# Altium footprint library PcbLib.PcbLib: 23 footprints (part 2 of 2)
Each footprint in its own frame and in the unit in brackets; x right, y up, seen from the top. Pads: shape width x height; smd on the part's side, far side on the other; paste and mask are expansions set on the pad; w line width, h text height; cw(c..) or ccw(c..) is an arc to the next point about the centre after c.
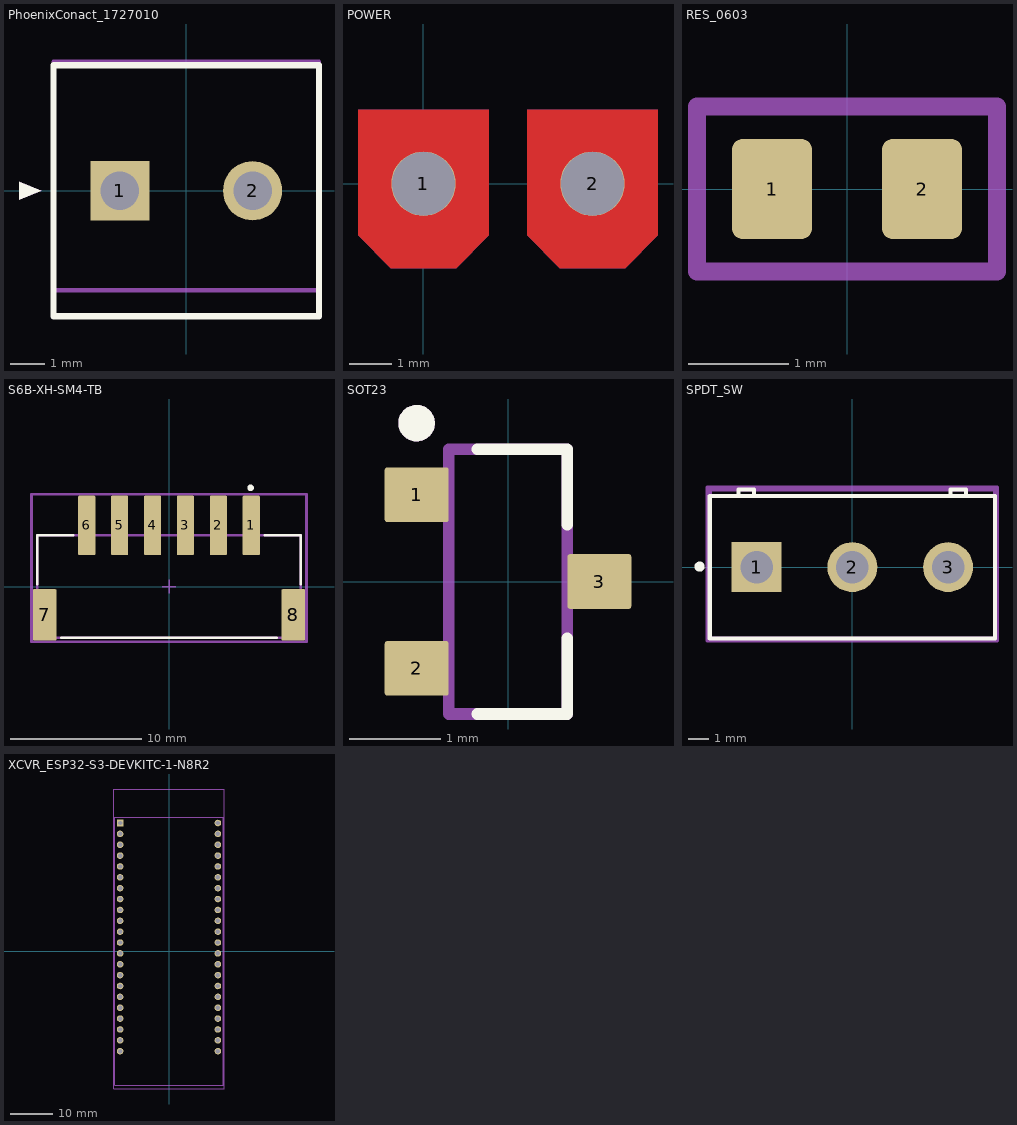
[diagram p1: the footprints below, top view; thin cyan lines are the x and y axes]

## PhoenixConact_1727010 [mm]
height 8.5
pads (2):
  rect 1.7x1.7 hole 1.1: 1(-1.905,0)
  round 1.7 hole 1.1: 2(1.905,0)
Top Overlay:
  region: -4.8,-0.254 -4.8,0.254 -4.165,0
  lines w0.178: -3.81,-3.6 -3.81,0 -3.81,3.6 0,3.6 3.81,3.6 3.81,0 3.81,-3.6 0,-3.6 -3.81,-3.6
Bottom 3D Body:
  region: -4.8,-0.254 -4.8,0.254 -4.165,0
  lines w0.127: -3.81,-2.861 -3.81,-2.049 -3.81,-1.566 -3.81,1.487 -3.81,1.962 -3.81,3.7 3.81,3.7 3.81,1.962 3.81,1.487 3.81,-1.566 3.81,-2.049 3.81,-2.861 ; -3.81,-2.861 -3.81,-3.3 -3.81,-3.6 3.81,-3.6 3.81,-3.3 3.81,-2.861 ; -3.81,-2.861 3.81,-2.861
  text ".Designator" at 0.381,-1.422 h1.02
3D body "1727010.stp": height 8.52, standoff -3.48, extent -3.81,-3.599 3.81,3.701

## POWER [mm]
pads (2):
  round 1.525 hole 1.5 paste-2539.97: 1(0,0) 2(4,0)
Top Layer:
  region: 2.45,-1.225 3.225,-2 4.775,-2 5.55,-1.225 5.55,1.75 2.45,1.75
  region: -1.55,-1.225 -0.775,-2 0.775,-2 1.55,-1.225 1.55,1.75 -1.55,1.75
Bottom Layer:
  region: 2.45,-1.225 3.225,-2 4.775,-2 5.55,-1.225 5.55,1.75 2.45,1.75
  region: -1.55,-1.225 -0.775,-2 0.775,-2 1.55,-1.225 1.55,1.75 -1.55,1.75

## RES_0603 [mm]
pads (2):
  rrect25% 0.8x1 smd: 1(-0.75,0) 2(0.75,0)
Top Component Outline:
  lines w0.175: -1.5,-0.825 1.5,-0.825 1.5,0.825 -1.5,0.825 -1.5,-0.825
  text "'.Designator'" at -5.665,-0.417 h1
3D body "R0603.step": height 0.52, standoff 0.01, extent -0.8,-0.43 0.8,0.43

## S6B-XH-SM4-TB [mm]
pads (8):
  rrect10% 1.3x4.5 smd paste+0 mask+0: 1(6.25,4.65) 2(3.75,4.65) 3(1.25,4.65) 4(-1.25,4.65) 5(-3.75,4.65) 6(-6.25,4.65)
  rrect10% 1.8x3.9 smd paste+0 mask+0: 7(-9.45,-2.15) 8(9.45,-2.15)
Top Overlay:
  circle w0.25: c6.2,7.5 r0.125
  lines w0.2: -10,0.175 -10,3.9 -7.275,3.9 ; -8.175,-3.9 8.175,-3.9 ; 7.275,3.9 10,3.9 10,0.175
Mechanical 1:
  lines w0.2: -10.45,-4.2 -10.45,7 10.45,7 10.45,-4.2 -10.45,-4.2
  text ".Designator" at 0,0.188 h1
Top 3D Body:
  lines w0.2: -10,-3.9 10,-3.9 10,3.9 -10,3.9 -10,-3.9
Top Component Center:
  lines w0.1: -0.5,0 0.5,0 ; 0,-0.5 0,0.5
3D body "Conn_JST_S6B-XH-SM4-TB_LF_SN_eec.STEP": height 0.25, standoff 0, extent -10.45,-4.2 10.45,7

## SOT23 [mm]
pads (3):
  rrect10% 0.7x0.6 smd paste-0.05: 1(-1,0.95) 2(-1,-0.95) 3(1,0)
Top Overlay:
  circle w0.2: c-1.001,1.734 r0.1
  lines w0.127: -0.336,-1.45 0.65,-1.45 0.65,-0.62 ; -0.336,1.45 0.65,1.45 0.65,0.62
Top 3D Body:
  circle w0.2: c-1.001,1.734 r0.1
  lines w0.127: -0.65,-1.45 0.65,-1.45 0.65,1.45 -0.65,1.45 -0.65,-1.45
3D body "step_temp.STEP": height 1.1, standoff 0, extent -1.15,-1.45 1.15,1.45

## SPDT_SW [mm]
pads (3):
  rect 2.45x2.45 hole 1.6 paste-2539.97 mask+0: 1(-4.7,0)
  round 2.45 hole 1.6 paste-2539.97 mask+0: 2(0,0) 3(4.7,0)
Top Overlay:
  circle w0.25: c-7.5,0.025 r0.125
  lines w0.2: -7,-3.5 7,-3.5 7,3.5 -7,3.5 -7,-3.5 ; -5.588,3.498 -4.826,3.498 -4.826,3.802 -5.588,3.802 -5.588,3.498 ; 4.826,3.498 5.588,3.498 5.588,3.802 4.826,3.802 4.826,3.498
Top Assembly:
  lines w0.2: -7.1,-3.6 7.1,-3.6 7.1,3.905 -7.1,3.905 -7.1,-3.6
  text ".Designator" at 0,0.152 h1
Top 3D Body:
  lines w0.2: -7,-3.5 7,-3.5 7,3.805 -7,3.805 -7,-3.5
Top Courtyard:
  lines w0.2: -7.1,-3.6 7.1,-3.6 7.1,3.905 -7.1,3.905 -7.1,-3.6
Top Component Center:
  lines w0.1: -0.5,0 0.5,0 ; 0,-0.5 0,0.5
3D body "Switch_NKK_Switches_CS12ANW03_eec.STEP": height 0.25, standoff 0, extent -7.1,-3.6 7.1,3.905

## XCVR_ESP32-S3-DEVKITC-1-N8R2 [mm]
pads (44):
  rect 1.53x1.53 / inner round 1.53 / far side rect 1.53x1.53 hole 1.02: J1_1(-11.43,29.97)
  round 1.53 hole 1.02: J1_2(-11.43,27.43) J1_3(-11.43,24.89) J1_4(-11.43,22.35) J1_5(-11.43,19.81) J1_6(-11.43,17.27) J1_7(-11.43,14.73) J1_8(-11.43,12.19) J1_9(-11.43,9.65) J1_10(-11.43,7.11) J1_11(-11.43,4.57) J1_12(-11.43,2.03) J1_13(-11.43,-0.51) J1_14(-11.43,-3.05) J1_15(-11.43,-5.59) J1_16(-11.43,-8.13) J1_17(-11.43,-10.67) J1_18(-11.43,-13.21) J1_19(-11.43,-15.75) J1_20(-11.43,-18.29) J1_21(-11.43,-20.83) J1_22(-11.43,-23.37) J3_1(11.43,29.97) J3_2(11.43,27.43) J3_3(11.43,24.89) J3_4(11.43,22.35) J3_5(11.43,19.81) J3_6(11.43,17.27) J3_7(11.43,14.73) J3_8(11.43,12.19) J3_9(11.43,9.65) J3_10(11.43,7.11) J3_11(11.43,4.57) J3_12(11.43,2.03) J3_13(11.43,-0.51) J3_14(11.43,-3.05) J3_15(11.43,-5.59) J3_16(11.43,-8.13) J3_17(11.43,-10.67) J3_18(11.43,-13.21) J3_19(11.43,-15.75) J3_20(11.43,-18.29) J3_21(11.43,-20.83) J3_22(11.43,-23.37)
Top 3D Body:
  lines w0.127: -12.7,-31.37 -12.7,31.37 12.7,31.37 12.7,-31.37 -12.7,-31.37
Top Courtyard:
  lines w0.05: -12.95,-32.21 -12.95,37.92 12.95,37.92 12.95,-32.21 -12.95,-32.21
3D body "step_temp.STEP": height 7.39, standoff -6, extent -12.7,-31.96 12.7,37.68